# Altium schematic symbol library PMW3901.SchLib: 1 symbol
Pins are listed as number, name and electrical type; pins without a type are passive.

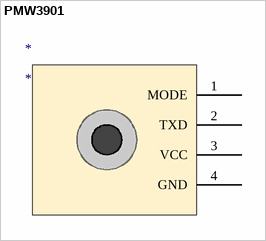
[diagram p0: symbol PMW3901]

## PMW3901
designator *
pins: 1 MODE, 2 TXD, 3 VCC, 4 GND